# EAGLE library part XM1584 (library XM1584)
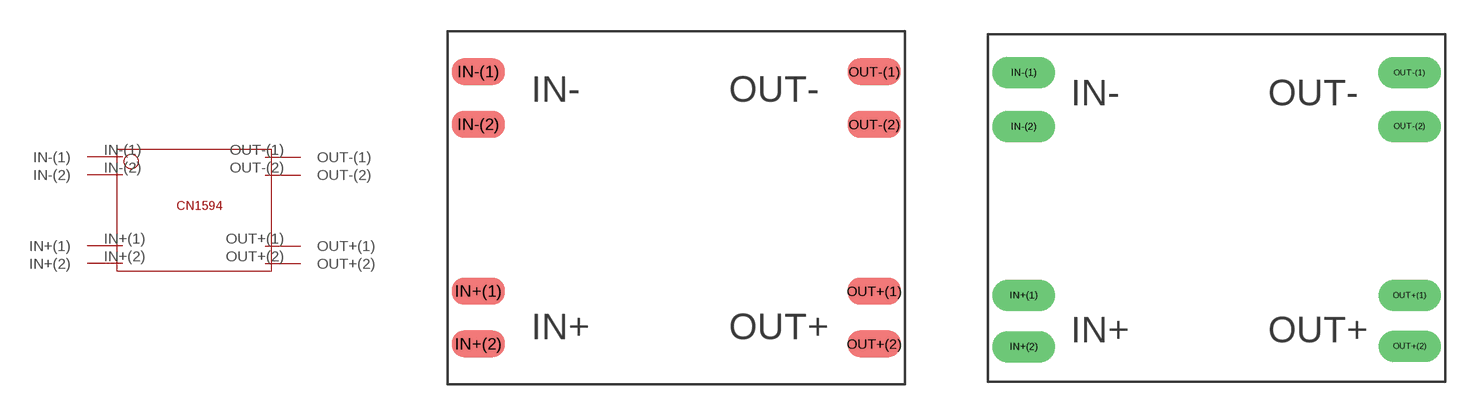
[diagram p0: symbol with the pads of XM1584-SMT; footprints XM1584-SMT, XM1584-TH]

Designator prefix -

## XM1584SMD  [XM1584-SMT]
IN+(1)  IN+(1)  in
IN+(2)  IN+(2)  in
IN-(1)  IN-(1)  in
IN-(2)  IN-(2)  in
OUT+(1)  OUT+(1)  out
OUT+(2)  OUT+(2)  out
OUT-(1)  OUT-(1)  out
OUT-(2)  OUT-(2)  out

## XM1584  [XM1584-TH]
Pads as for XM1584-SMT

## Footprint XM1584-SMT (pad centres in mm)
smd 2.54 x 1.27: IN+(1) -9.525,-4.013; IN+(2) -9.525,-6.553; IN-(1) -9.525,6.553; IN-(2) -9.525,4.013; OUT+(1) 9.525,-4.013; OUT+(2) 9.525,-6.553; OUT-(1) 9.525,6.553; OUT-(2) 9.525,4.013

## Footprint XM1584-TH (pad centres in mm)
drill 1 long: IN+(1) -9.245,-4.073; IN+(2) -9.24,-6.552; IN-(1) -9.241,6.666; IN-(2) -9.245,4.063; OUT+(1) 9.355,-4.073; OUT+(2) 9.362,-6.523; OUT-(1) 9.342,6.665; OUT-(2) 9.345,4.083